# EAGLE library part ESP32-WROOM-FAB (library Library_esp32 v8)
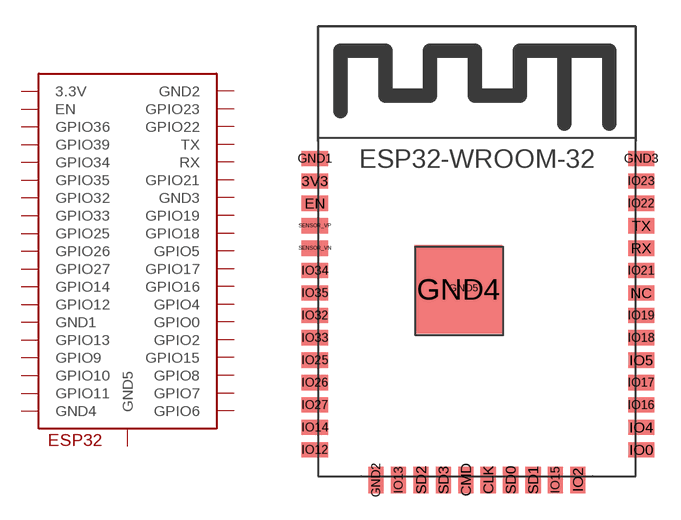
[diagram p1: symbol with the pads of ESP32-WROOM-FAB; footprint ESP32-WROOM-FAB]

Designator prefix -

## ESP32-WROOM-FAB  [ESP32-WROOM-FAB]
3V3  3.3V
CLK  GPIO6
CMD  GPIO11
EN  EN
GND1  GND1
GND2  GND2
GND3  GND3
GND4  GND4
GND5  GND5
IO0  GPIO0
IO2  GPIO2
IO4  GPIO4
IO5  GPIO5
IO12  GPIO12
IO13  GPIO13
IO14  GPIO14
IO15  GPIO15
IO16  GPIO16
IO17  GPIO17
IO18  GPIO18
IO19  GPIO19
IO21  GPIO21
IO22  GPIO22
IO23  GPIO23
IO25  GPIO25
IO26  GPIO26
IO27  GPIO27
IO32  GPIO32
IO33  GPIO33
IO34  GPIO34
IO35  GPIO35
RX  RX
SD0  GPIO7
SD1  GPIO8
SD2  GPIO9
SD3  GPIO10
SENSOR_VN  GPIO39
SENSOR_VP  GPIO36
TX  TX

## Footprint ESP32-WROOM-FAB (pad centres in mm)
smd 1.5 x 0.864: 3V3 -0.178,16.74; EN -0.178,15.47; GND1 -0.178,18.01; GND3 18.317,18.01; IO0 18.317,1.5; IO4 18.317,2.77; IO5 18.317,6.58; IO12 -0.178,1.5; IO14 -0.178,2.77; IO16 18.317,4.04; IO17 18.317,5.31; IO18 18.317,7.85; IO19 18.317,9.12; IO21 18.317,11.66; IO22 18.317,15.47; IO23 18.317,16.74; IO25 -0.178,6.58; IO26 -0.178,5.31; IO27 -0.178,4.04; IO32 -0.178,9.12; IO33 -0.178,7.85; IO34 -0.178,11.66; IO35 -0.178,10.39; NC 18.317,10.39; RX 18.317,12.93; SENSOR_VN -0.178,12.93; SENSOR_VP -0.178,14.2; TX 18.317,14.2
smd 0.864 x 1.5: CLK 9.64,-0.203; CMD 8.37,-0.203; GND2 3.285,-0.203; IO2 14.72,-0.203; IO13 4.56,-0.203; IO15 13.45,-0.203; SD0 10.91,-0.203; SD1 12.18,-0.203; SD2 5.83,-0.203; SD3 7.1,-0.203
smd 5 x 5: GND4 7.954,10.602
smd 1.27 x 0.635: GND5 8.255,10.668